# Altium footprint library MOLEX_2171750001.PcbLib: 1 footprints
Each footprint in its own frame and in the unit in brackets; x right, y up, seen from the top. Pads: shape width x height; smd on the part's side, far side on the other; paste and mask are expansions set on the pad; w line width, h text height; cw(c..) or ccw(c..) is an arc to the next point about the centre after c.
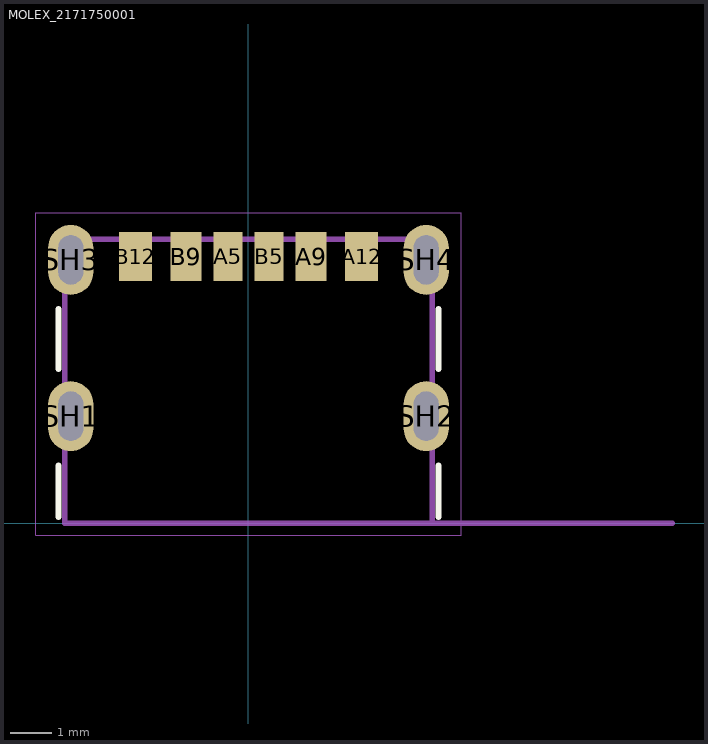
[diagram p0: the footprint, top view; thin cyan lines are the x and y axes]

## MOLEX_2171750001 [mm]
height 3.26
pads (10):
  rect 0.7x1.2 smd mask+0.064: A5(-0.5,6.48) B5(0.5,6.48)
  rect 0.76x1.2 smd mask+0.064: A9(1.52,6.48) B9(-1.52,6.48)
  rect 0.8x1.2 smd mask+0.064: A12(2.75,6.48) B12(-2.75,6.48)
  oval 1.1x1.7 hole 0.6 slot 1.2 at 90 deg mask+0.064: SH1(-4.32,2.6) SH2(4.32,2.6) SH3(-4.32,6.4) SH4(4.32,6.4)
Top Overlay:
  lines w0.15: -4.62,0.15 -4.62,1.4 ; -4.62,3.75 -4.62,5.2 ; 4.62,0.15 4.62,1.4 ; 4.62,3.75 4.62,5.2
Mechanical 2:
  text "'.Designator'" at 0,3.625 h0.7
Mechanical 12:
  text "PTH Slot 1.2 +/- 0.05 X 0.6 +/- 0.05" at -4.763,10.93 h0.5
Mechanical 13:
  lines w0.13: 10.3,0 4.47,0 ; 4.47,0 4.47,6.9 -4.47,6.9 -4.47,0 4.47,0
  text "PCB Edge" at 5.3,0.2 h1
Mechanical 15:
  lines w0.01: -5.17,-0.3 -5.17,7.55 5.17,7.55 5.17,-0.3 -5.17,-0.3